# Altium footprint library FootprintsLib.PcbLib: 22 footprints (part 2 of 2)
Each footprint in its own frame and in the unit in brackets; x right, y up, seen from the top. Pads: shape width x height; smd on the part's side, far side on the other; paste and mask are expansions set on the pad; w line width, h text height; cw(c..) or ccw(c..) is an arc to the next point about the centre after c.
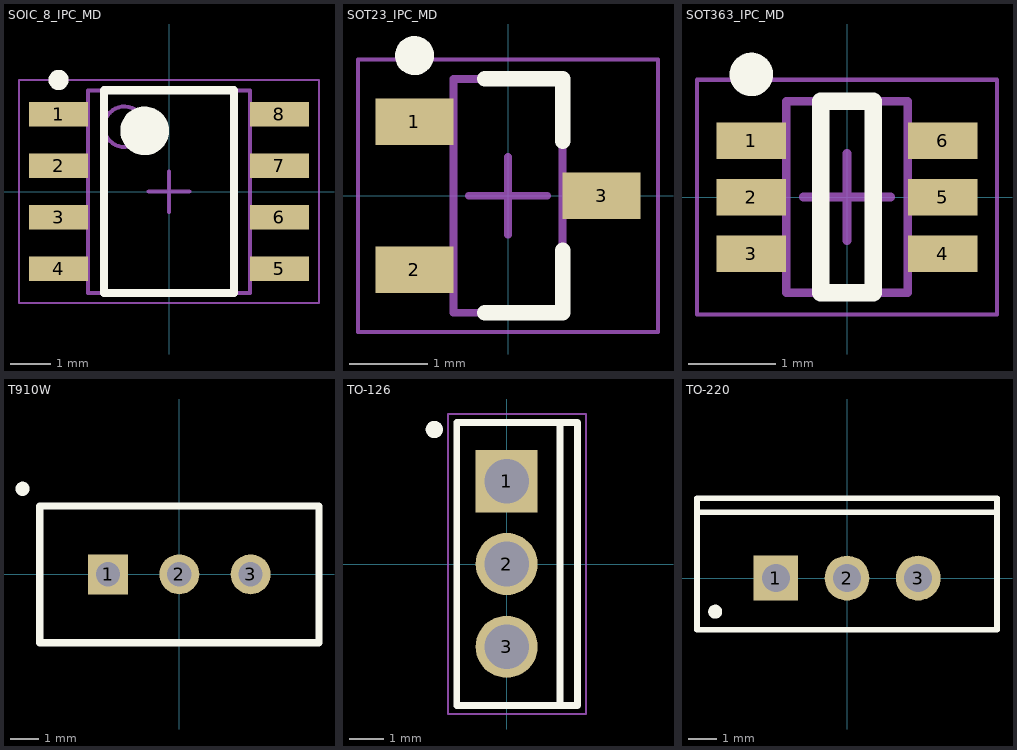
[diagram p1: the footprints below, top view; thin cyan lines are the x and y axes]

## SOIC_8_IPC_MD [mm] "SOIC, 8-Leads, Pitch 1,27mm, IPC Medium Density"
height 1.75
pads (8):
  rect 1.45x0.6 smd: 1(-2.725,1.905) 2(-2.725,0.635) 3(-2.725,-0.635) 4(-2.725,-1.905) 5(2.725,-1.905) 6(2.725,-0.635) 7(2.725,0.635) 8(2.725,1.905)
Top Overlay:
  circle w0.6: c-0.6,1.5 r0.3
  circle w0.25: c-2.725,2.755 r0.125
  lines w0.2: -1.6,-2.5 1.6,-2.5 1.6,2.5 -1.6,2.5 -1.6,-2.5
Mechanical 13:
  circle w0.1: c-1.1,1.6 r0.5
  lines w0.1: -2,-2.5 2,-2.5 2,2.5 -2,2.5 -2,-2.5
Mechanical 15:
  lines w0.05: -3.7,-2.75 3.7,-2.75 3.7,2.75 -3.7,2.75 -3.7,-2.75
  lines w0.1: -0.5,0 0.5,0 ; 0,-0.5 0,0.5
3D body "SOIC_8_IPC_MD.step": height 1.75, standoff 0, extent -3,-2.5 3,2.5

## SOT23_IPC_MD [mm] "SOT23, 3-Leads, Body 2.90x2.45mm, Pitch 0.95mm, IPC Medium Density"
height 1.1
pads (3):
  rect 1x0.6 smd: 1(-1.2,0.95) 2(-1.2,-0.95) 3(1.2,0)
Top Overlay:
  circle w0.25: c-1.2,1.8 r0.125
  lines w0.2: -0.3,-1.5 0.7,-1.5 0.7,-0.7 ; -0.3,1.5 0.7,1.5 0.7,0.7
Mechanical 13:
  lines w0.1: -0.7,-1.5 0.7,-1.5 0.7,1.5 -0.7,1.5 -0.7,-1.5
Mechanical 15:
  lines w0.05: -1.925,-1.75 1.925,-1.75 1.925,1.75 -1.925,1.75 -1.925,-1.75
  lines w0.1: -0.5,0 0.5,0 ; 0,-0.5 0,0.5
3D body "SOT23_IPC_MD.step": height 1.1, standoff 0, extent -1.3,-1.5 1.3,1.5

## SOT363_IPC_MD [mm] "TSOP, 6-Leads, Body 2,00x1,25mm, Pitch 0,65mm, IPC Medium Density"
height 1.22
pads (6):
  rect 0.8x0.42 smd: 1(-1.1,0.65) 2(-1.1,0) 3(-1.1,-0.65) 4(1.1,-0.65) 5(1.1,0) 6(1.1,0.65)
Top Overlay:
  circle w0.25: c-1.1,1.41 r0.125
  lines w0.2: -0.3,-1.1 0.3,-1.1 0.3,1.1 -0.3,1.1 -0.3,-1.1
Mechanical 13:
  lines w0.1: -0.7,-1.1 0.7,-1.1 0.7,1.1 -0.7,1.1 -0.7,-1.1
Mechanical 15:
  lines w0.05: -1.725,-1.35 1.725,-1.35 1.725,1.35 -1.725,1.35 -1.725,-1.35
  lines w0.1: -0.5,0 0.5,0 ; 0,-0.5 0,0.5
3D body "SOT363_IPC_MD.step": height 1.22, standoff 0.02, extent -1.025,-1.1 1.025,1.1

## T910W [mm]
pads (3):
  rect 1.4x1.4 hole 0.85: 1(-2.5,0)
  round 1.4 hole 0.85: 2(0,0) 3(2.5,0)
Top Overlay:
  circle w0.25: c-5.5,3 r0.125
  lines w0.254: -4.9,-2.4 4.9,-2.4 4.9,2.4 -4.9,2.4 -4.9,-2.4
3D body: height 0, standoff -0.5, extent 2.252,-0.249 2.75,0.25
3D body: height 10, standoff 0, extent -4.75,-2.4 4.75,2.4
3D body: height 0, standoff -0.5, extent -0.248,-0.249 0.25,0.25
3D body: height 0, standoff -0.5, extent -2.748,-0.249 -2.25,0.25
3D body: height 11.5, standoff 10, extent -3.6,-1.1 -2.604,-0.102

## TO-126 [mm] "FM, 3-Leads, Body 8.2x3.5mm, Pitch 2.4mm"
height 12.5
pads (3):
  rect 1.8x1.8 hole 1.3: 1(0,2.4)
  round 1.8 hole 1.3: 2(0,0) 3(0,-2.4)
Top Overlay:
  circle w0.25: c-2.1,3.9 r0.125
  lines w0.2: 1.55,-4.1 1.55,4.1 ; -1.45,-4.1 -1.45,4.1 2.05,4.1 2.05,-4.1 -1.45,-4.1
Mechanical 13:
  lines w0.1: 2.05,-4.1 2.05,4.1 ; 2.05,-4.1 -1.45,-4.1 -1.45,4.1 2.05,4.1 ; 2.05,-4.1 2.05,4.1
Mechanical 15:
  lines w0.05: -1.7,-4.35 2.3,-4.35 2.3,4.35 -1.7,4.35 -1.7,-4.35
  lines w0.1: -0.5,0 0.5,0 ; 0,-0.5 0,0.5
3D body: height 13.1, standoff 12.5, extent 2.05,-4 2.05,4
3D body: height 12.5, standoff 1.2, extent -1.45,-4.1 2.05,4.1
3D body: height 0, standoff -1.6, extent -0.35,-2.8 0.35,-2
3D body: height 1.2, standoff 0, extent -0.35,-3.2 0.35,-1.6
3D body: height 0, standoff -1.6, extent -0.35,-0.4 0.35,0.4
3D body: height 1.2, standoff 0, extent -0.35,-0.8 0.35,0.8
3D body: height 0, standoff -1.6, extent -0.35,2 0.35,2.8
3D body: height 1.2, standoff 0, extent -0.35,1.6 0.35,3.2

## TO-220 [mm] "TO, Thru-Hole, Vertical, Heatsink Mounted; 3 In-Line Leads; Pitch 2.54 mm"
height 19.3
pads (3):
  rect 1.6x1.6 hole 1: 1(-2.54,0)
  round 1.6 hole 1: 2(0,0) 3(2.54,0)
Top Overlay:
  circle w0.25: c-4.7,-1.2 r0.125
  lines w0.2: -5.35,2.35 5.35,2.35 ; -5.35,-1.85 5.35,-1.85 5.35,2.85 -5.35,2.85 -5.35,-1.85
Mechanical 15:
  lines w0.1: -0.5,0 0.5,0 ; 0,-0.5 0,0.5
3D body: height 6.03, standoff 1.28, extent 0,0 0,0
3D body "TO-220 Regulator Transistor.step": height 20.04, standoff -0.69, extent -5,-1.778 5,2.74